# EAGLE library part BALANCER (library balancer20a)
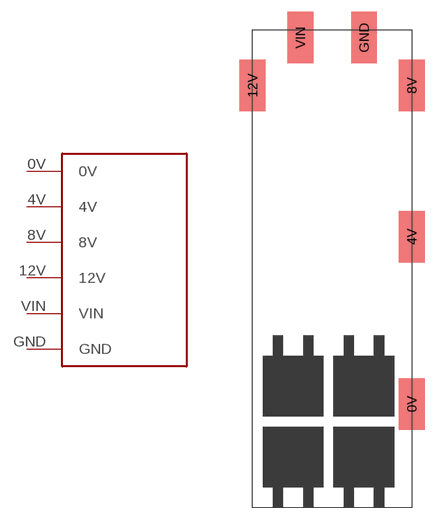
[diagram p0: symbol with the pads of BALANCER; footprint BALANCER]

Designator prefix -

## BALANCER  [BALANCER]
0V  0V
4V  4V
8V  8V
12V  12V
GND  GND
VIN  VIN

## Footprint BALANCER (pad centres in mm)
smd 3.251 x 6.452: 0V 20,13; 4V 20,34; 8V 20,53; 12V 0,53; GND 14,59; VIN 6,59